# Altium footprint library Resistors.PcbLib: 5 footprints
Each footprint in its own frame and in the unit in brackets; x right, y up, seen from the top. Pads: shape width x height; smd on the part's side, far side on the other; paste and mask are expansions set on the pad; w line width, h text height; cw(c..) or ccw(c..) is an arc to the next point about the centre after c.
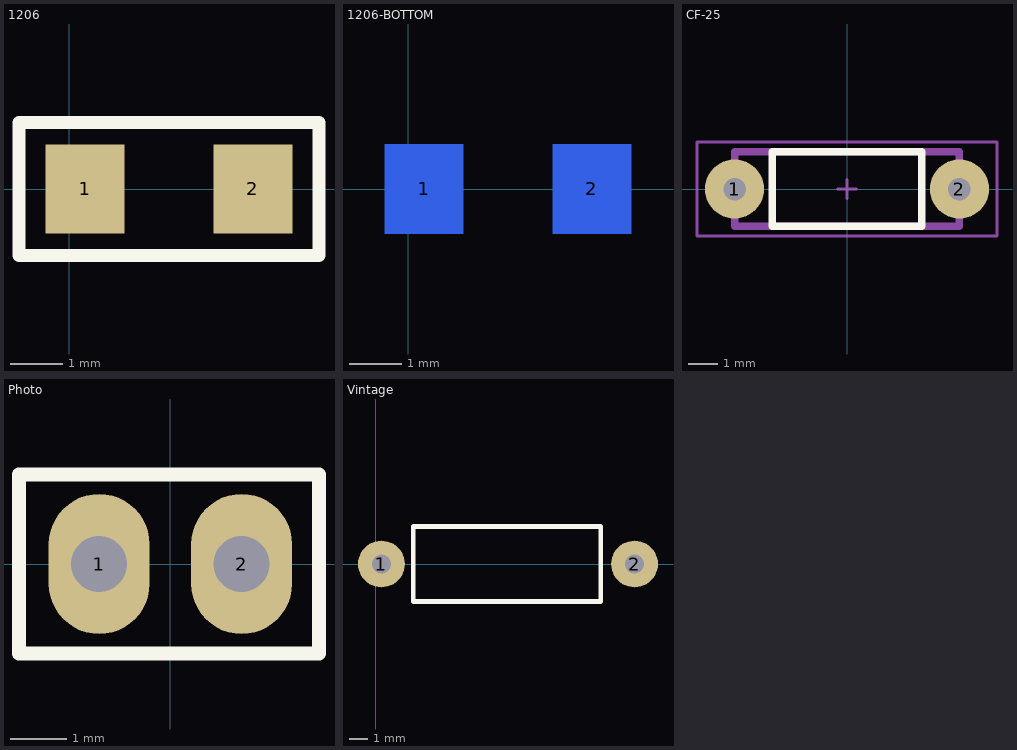
[diagram p0: the footprints below, top view; thin cyan lines are the x and y axes]

## 1206 [mm]
pads (2):
  rect 1.5x1.7 smd: 1(0.305,0) 2(3.505,0)
Top Overlay:
  lines w0.25: -0.953,-1.27 -0.953,1.27 4.763,1.27 4.763,-1.27 -0.953,-1.27
3D body "User Library-1206 SMD Resistor.X_B": height 1, standoff 0, extent 0.305,-0.8 3.505,0.8

## 1206-BOTTOM [mm]
pads (2):
  rect 1.5x1.7 smd far side: 1(0.305,0) 2(3.505,0)
Bottom Overlay:
  lines w0.25: -0.953,-1.27 -0.953,1.27 4.763,1.27 4.763,-1.27 -0.953,-1.27
3D body "Resistor_SMD_1206.STEP": height -1.69, standoff -2.81, extent 0.305,-0.81 3.505,0.81

## CF-25 [mm]
pads (2):
  round 2 hole 0.762: 1(-3.81,0) 2(3.81,0)
Top Overlay:
  lines w0.254: -2.54,-1.27 -2.54,1.27 2.54,1.27 2.54,-1.27 -2.54,-1.27
Top Assy:
  lines w0.254: -3.81,-1.27 -3.81,1.27 3.81,1.27 3.81,-1.27 -3.81,-1.27
Border:
  lines w0.1: -0.318,0 0.318,0 ; 0,-0.318 0,0.318 ; -5.08,-1.587 -5.08,1.587 5.08,1.587 5.08,-1.587 -5.08,-1.587
3D body "RESISTOR 7_62mm_Dip.STEP": height 2.3, standoff -1.7, extent -4.05,-1 4.05,1

## Photo [mm]
pads (2):
  oval 1.8x2.5 hole 1: 1(-1.27,0) 2(1.27,0)
Top Overlay:
  lines w0.25: -2.7,-1.6 2.65,-1.6 2.65,1.6 -2.7,1.6 -2.7,-1.6

## Vintage [mm]
pads (2):
  round 2.5 hole 1: 1(0.3,0) 2(13.8,0)
Top Overlay:
  lines w0.25: 2,-2 2,2 12,2 12,-2 2,-2
3D body "Resistor_Vintage.X_T": height 4.5, standoff -3.5, extent -0.2,-2 14.253,2